# Altium integrated library ECS-180-S-5P-DN-TR.IntLib: 1 symbol
Pins are listed as number, name and electrical type; pins without a type are passive.

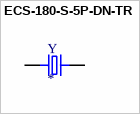
[diagram p0: symbol ECS-180-S-5P-DN-TR]

## ECS-180-S-5P-DN-TR
designator Y
Crystals 18MHz; MP: ECS-180-S-5P-DN-TR; MF: ECS International; Value: *; SnapEDA_Link: https://www.snapeda.com/parts/ECS-180-S-5P-DN-TR/ECS%20International/view-part/2547669/?ref=snap; Price: None; Package: HC49/US ECS International; Availability: Unavailable
footprint XTAL_ECS-180-S-5P-DN-TR
pins: 1, 2